# Altium schematic symbol library Contact.SchLib: 45 symbols
Pins are listed as number, name and electrical type; pins without a type are passive.

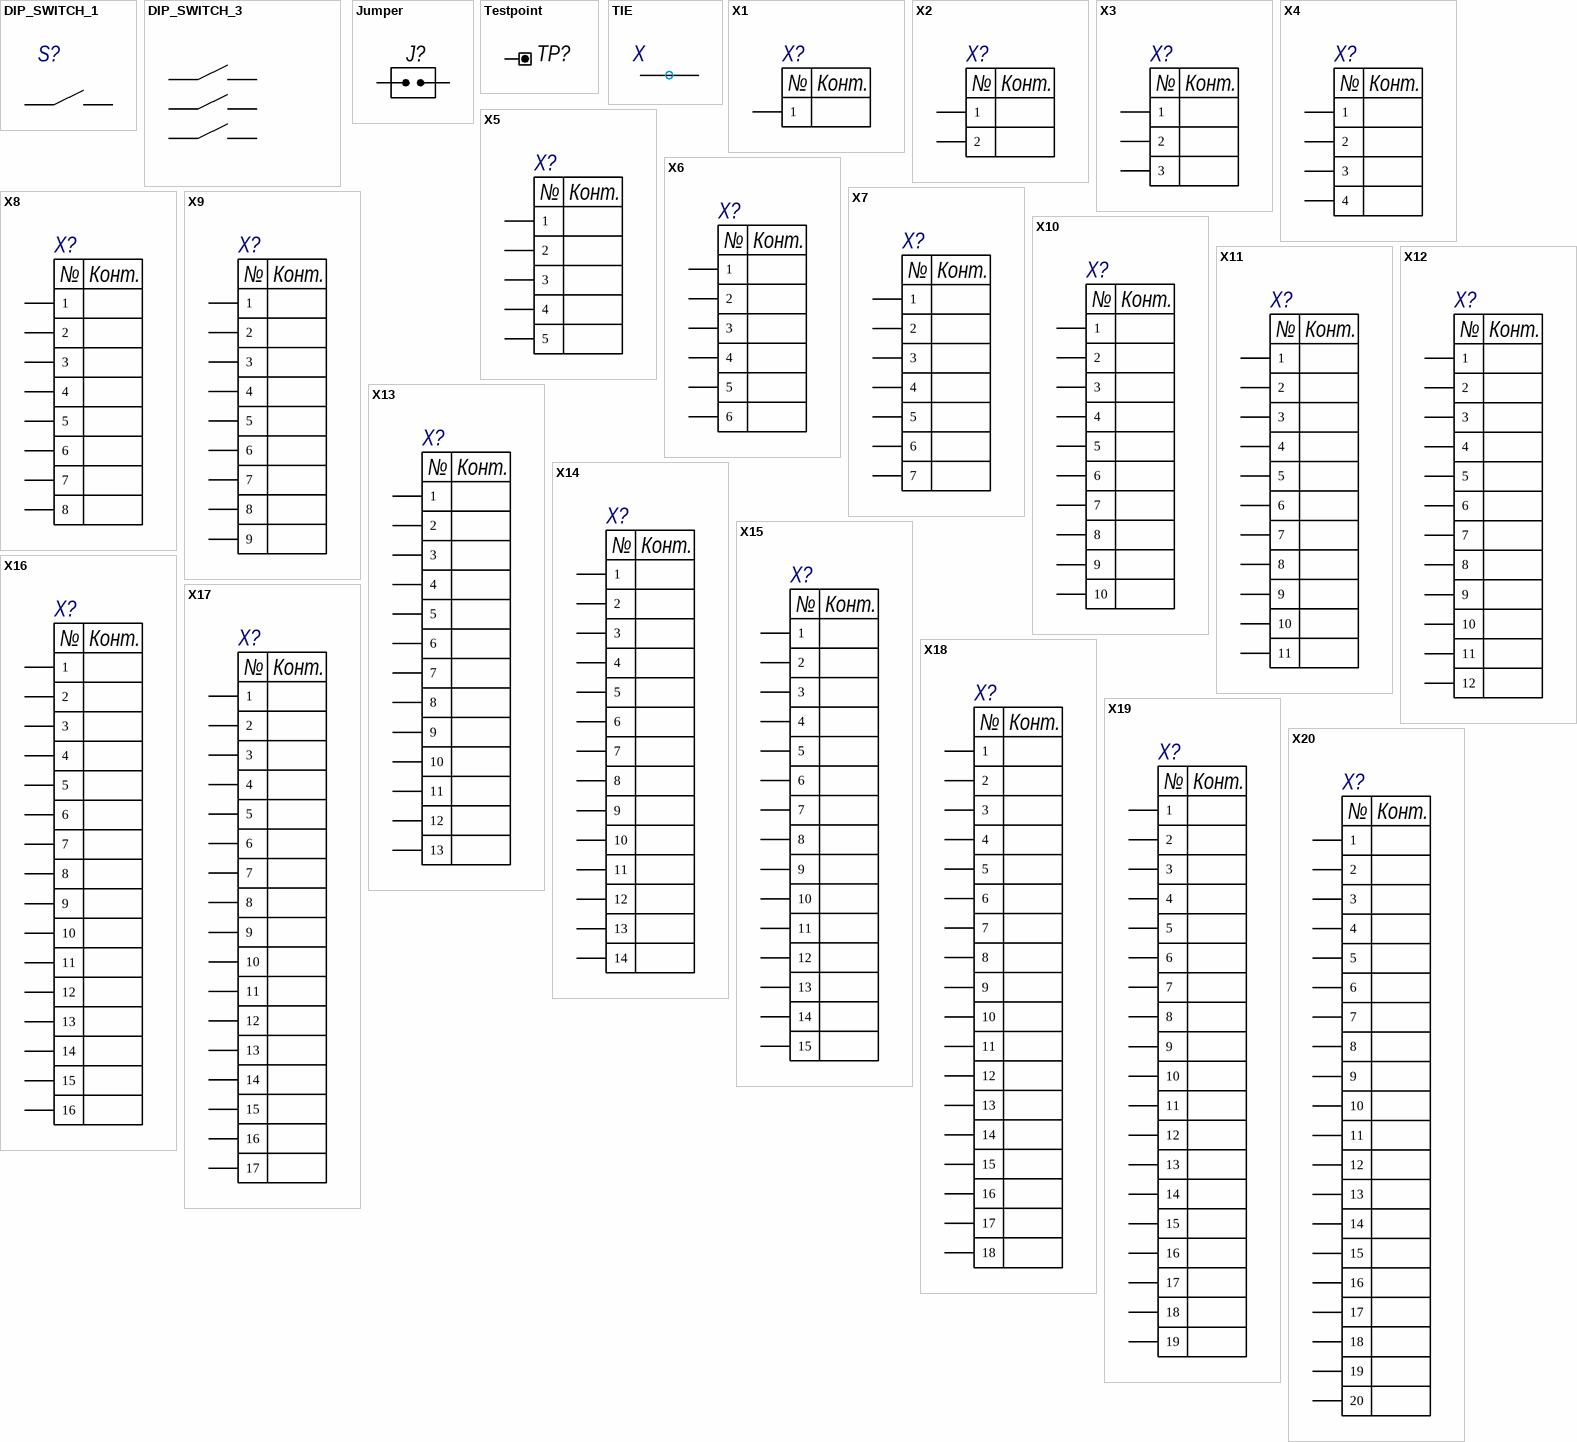
[diagram p0: symbols DIP_SWITCH_1 to X20]

## DIP_SWITCH_1
designator S?
Part: R 0805 ±1%; Cat: Резистор; Name: NULL; Power: 0,125 Вт; Tolerance: ±1%; Bill: Резистор NULL-0,125 Вт-NULL±1%; Com: R0805 0,125 Вт NULL ±1%; Package: R0805; Nominal: NULL
pins: 1, 2

## DIP_SWITCH_3
designator S?
Part: R 0805 ±1%; Cat: Резистор; Name: NULL; Power: 0,125 Вт; Tolerance: ±1%; Bill: Резистор NULL-0,125 Вт-NULL±1%; Com: R0805 0,125 Вт NULL ±1%; Package: R0805; Nominal: NULL
pins: 1, 2, 3, 4, 5, 6

## Jumper
designator J?
pins: 1 IN, 2 IN

## Testpoint
designator TP?
Manufacturer: Keystone; ValueManufacturerPartNumber: Test point, Keystone, 5001; PartNumber: 5001; TypeConnector: Test point; HelpURL: https://www.digikey.com/product-detail/en/keystone-electronics/5001/36-5001-ND/255327
pins: 1

## TIE
designator X  (value not drawn)
footprint TIE
pins: 1 "Информационный вход Х6", 2 "Информационный вход Х6"

## X1
designator X?
pins: 1
3 alternate drawings of the same symbol
text: №; Конт.

## X2
designator X?
pins: 1, 2
3 alternate drawings of the same symbol
text: №; Конт.

## X3
designator X?
pins: 1, 2, 3
3 alternate drawings of the same symbol
text: №; Конт.

## X4
designator X?
pins: 1, 2, 3, 4
3 alternate drawings of the same symbol
text: №; Конт.

## X5
designator X?
pins: 1, 2, 3, 4, 5
3 alternate drawings of the same symbol
text: №; Конт.

## X6
designator X?
pins: 1, 2, 3, 4, 5, 6
3 alternate drawings of the same symbol
text: №; Конт.

## X7
designator X?
pins: 1, 2, 3, 4, 5, 6, 7
3 alternate drawings of the same symbol
text: №; Конт.

## X8
designator X?
pins: 1, 2, 3, 4, 5, 6, 7, 8
3 alternate drawings of the same symbol
text: №; Конт.

## X9
designator X?
pins: 1, 2, 3, 4, 5, 6, 7, 8, 9
3 alternate drawings of the same symbol
text: №; Конт.

## X10
designator X?
pins: 1, 2, 3, 4, 5, 6, 7, 8, 9, 10
3 alternate drawings of the same symbol
text: №; Конт.

## X11
designator X?
pins: 1, 2, 3, 4, 5, 6, 7, 8, 9, 10, 11
3 alternate drawings of the same symbol
text: №; Конт.

## X12
designator X?
pins: 1, 2, 3, 4, 5, 6, 7, 8, 9, 10, 11, 12
3 alternate drawings of the same symbol
text: №; Конт.

## X13
designator X?
pins: 1, 2, 3, 4, 5, 6, 7, 8, 9, 10, 11, 12, 13
3 alternate drawings of the same symbol
text: №; Конт.

## X14
designator X?
pins: 1, 2, 3, 4, 5, 6, 7, 8, 9, 10, 11, 12, 13, 14
3 alternate drawings of the same symbol
text: №; Конт.

## X15
designator X?
pins: 1, 2, 3, 4, 5, 6, 7, 8, 9, 10, 11, 12, 13, 14, 15
3 alternate drawings of the same symbol
text: №; Конт.

## X16
designator X?
pins: 1, 2, 3, 4, 5, 6, 7, 8, 9, 10, 11, 12, 13, 14, 15, 16
3 alternate drawings of the same symbol
text: №; Конт.

## X17
designator X?
pins: 1, 2, 3, 4, 5, 6, 7, 8, 9, 10, 11, 12, 13, 14, 15, 16, 17
3 alternate drawings of the same symbol
text: №; Конт.

## X18
designator X?
pins: 1, 2, 3, 4, 5, 6, 7, 8, 9, 10, 11, 12, 13, 14, 15, 16, 17, 18
3 alternate drawings of the same symbol
text: №; Конт.

## X19
designator X?
pins: 1, 2, 3, 4, 5, 6, 7, 8, 9, 10, 11, 12, 13, 14, 15, 16, 17, 18, 19
3 alternate drawings of the same symbol
text: №; Конт.

## X20
designator X?
pins: 1, 2, 3, 4, 5, 6, 7, 8, 9, 10, 11, 12, 13, 14, 15, 16, 17, 18, 19, 20
3 alternate drawings of the same symbol
text: №; Конт.

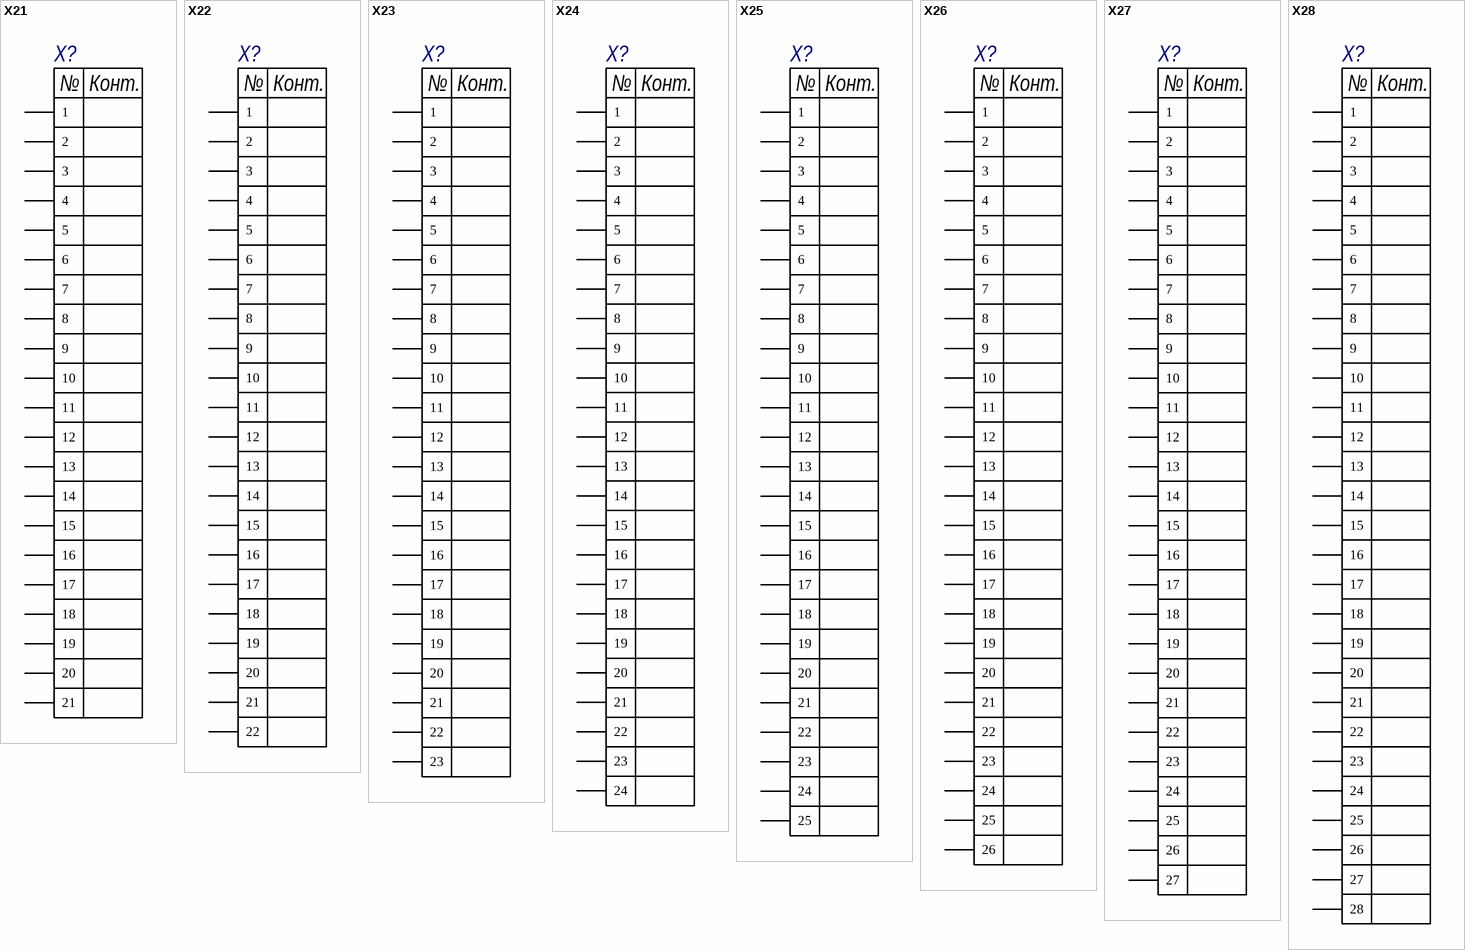
[diagram p1: symbols X21 to X28]

## X21
designator X?
pins: 1, 2, 3, 4, 5, 6, 7, 8, 9, 10, 11, 12, 13, 14, 15, 16, 17, 18, 19, 20, 21
3 alternate drawings of the same symbol
text: №; Конт.

## X22
designator X?
pins: 1, 2, 3, 4, 5, 6, 7, 8, 9, 10, 11, 12, 13, 14, 15, 16, 17, 18, 19, 20, 21, 22
3 alternate drawings of the same symbol
text: №; Конт.

## X23
designator X?
pins: 1, 2, 3, 4, 5, 6, 7, 8, 9, 10, 11, 12, 13, 14, 15, 16, 17, 18, 19, 20, 21, 22, 23
3 alternate drawings of the same symbol
text: №; Конт.

## X24
designator X?
pins: 1, 2, 3, 4, 5, 6, 7, 8, 9, 10, 11, 12, 13, 14, 15, 16, 17, 18, 19, 20, 21, 22, 23, 24
3 alternate drawings of the same symbol
text: №; Конт.

## X25
designator X?
pins: 1, 2, 3, 4, 5, 6, 7, 8, 9, 10, 11, 12, 13, 14, 15, 16, 17, 18, 19, 20, 21, 22, 23, 24, 25
3 alternate drawings of the same symbol
text: №; Конт.

## X26
designator X?
pins: 1, 2, 3, 4, 5, 6, 7, 8, 9, 10, 11, 12, 13, 14, 15, 16, 17, 18, 19, 20, 21, 22, 23, 24, 25, 26
3 alternate drawings of the same symbol
text: №; Конт.

## X27
designator X?
pins: 1, 2, 3, 4, 5, 6, 7, 8, 9, 10, 11, 12, 13, 14, 15, 16, 17, 18, 19, 20, 21, 22, 23, 24, 25, 26, 27
3 alternate drawings of the same symbol
text: №; Конт.

## X28
designator X?
pins: 1, 2, 3, 4, 5, 6, 7, 8, 9, 10, 11, 12, 13, 14, 15, 16, 17, 18, 19, 20, 21, 22, 23, 24, 25, 26, 27, 28
3 alternate drawings of the same symbol
text: №; Конт.

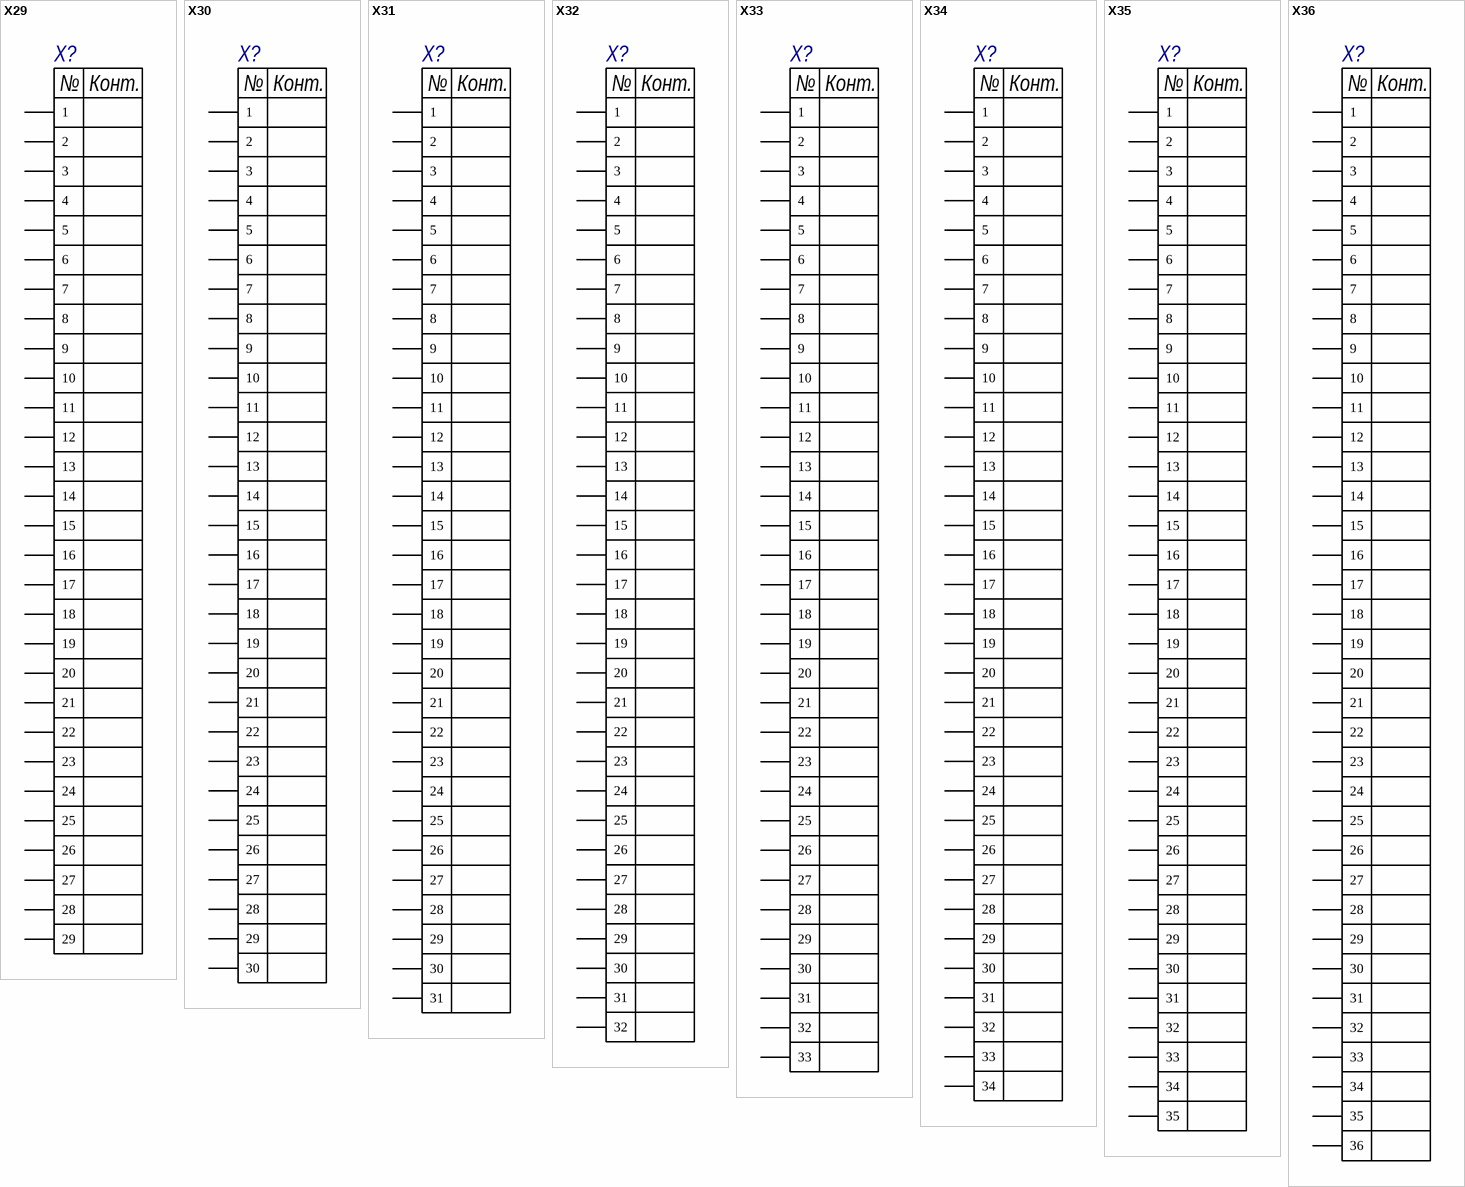
[diagram p2: symbols X29 to X36]

## X29
designator X?
pins: 1, 2, 3, 4, 5, 6, 7, 8, 9, 10, 11, 12, 13, 14, 15, 16, 17, 18, 19, 20, 21, 22, 23, 24, 25, 26, 27, 28, 29
3 alternate drawings of the same symbol
text: №; Конт.

## X30
designator X?
pins: 1, 2, 3, 4, 5, 6, 7, 8, 9, 10, 11, 12, 13, 14, 15, 16, 17, 18, 19, 20, 21, 22, 23, 24, 25, 26, 27, 28, 29, 30
3 alternate drawings of the same symbol
text: №; Конт.

## X31
designator X?
pins: 1, 2, 3, 4, 5, 6, 7, 8, 9, 10, 11, 12, 13, 14, 15, 16, 17, 18, 19, 20, 21, 22, 23, 24, 25, 26, 27, 28, 29, 30, 31
3 alternate drawings of the same symbol
text: №; Конт.

## X32
designator X?
pins: 1, 2, 3, 4, 5, 6, 7, 8, 9, 10, 11, 12, 13, 14, 15, 16, 17, 18, 19, 20, 21, 22, 23, 24, 25, 26, 27, 28, 29, 30, 31, 32
3 alternate drawings of the same symbol
text: №; Конт.

## X33
designator X?
pins: 1, 2, 3, 4, 5, 6, 7, 8, 9, 10, 11, 12, 13, 14, 15, 16, 17, 18, 19, 20, 21, 22, 23, 24, 25, 26, 27, 28, 29, 30, 31, 32, 33
3 alternate drawings of the same symbol
text: №; Конт.

## X34
designator X?
pins: 1, 2, 3, 4, 5, 6, 7, 8, 9, 10, 11, 12, 13, 14, 15, 16, 17, 18, 19, 20, 21, 22, 23, 24, 25, 26, 27, 28, 29, 30, 31, 32, 33, 34
3 alternate drawings of the same symbol
text: №; Конт.

## X35
designator X?
pins: 1, 2, 3, 4, 5, 6, 7, 8, 9, 10, 11, 12, 13, 14, 15, 16, 17, 18, 19, 20, 21, 22, 23, 24, 25, 26, 27, 28, 29, 30, 31, 32, 33, 34, 35
3 alternate drawings of the same symbol
text: №; Конт.

## X36
designator X?
pins: 1, 2, 3, 4, 5, 6, 7, 8, 9, 10, 11, 12, 13, 14, 15, 16, 17, 18, 19, 20, 21, 22, 23, 24, 25, 26, 27, 28, 29, 30, 31, 32, 33, 34, 35, 36
3 alternate drawings of the same symbol
text: №; Конт.

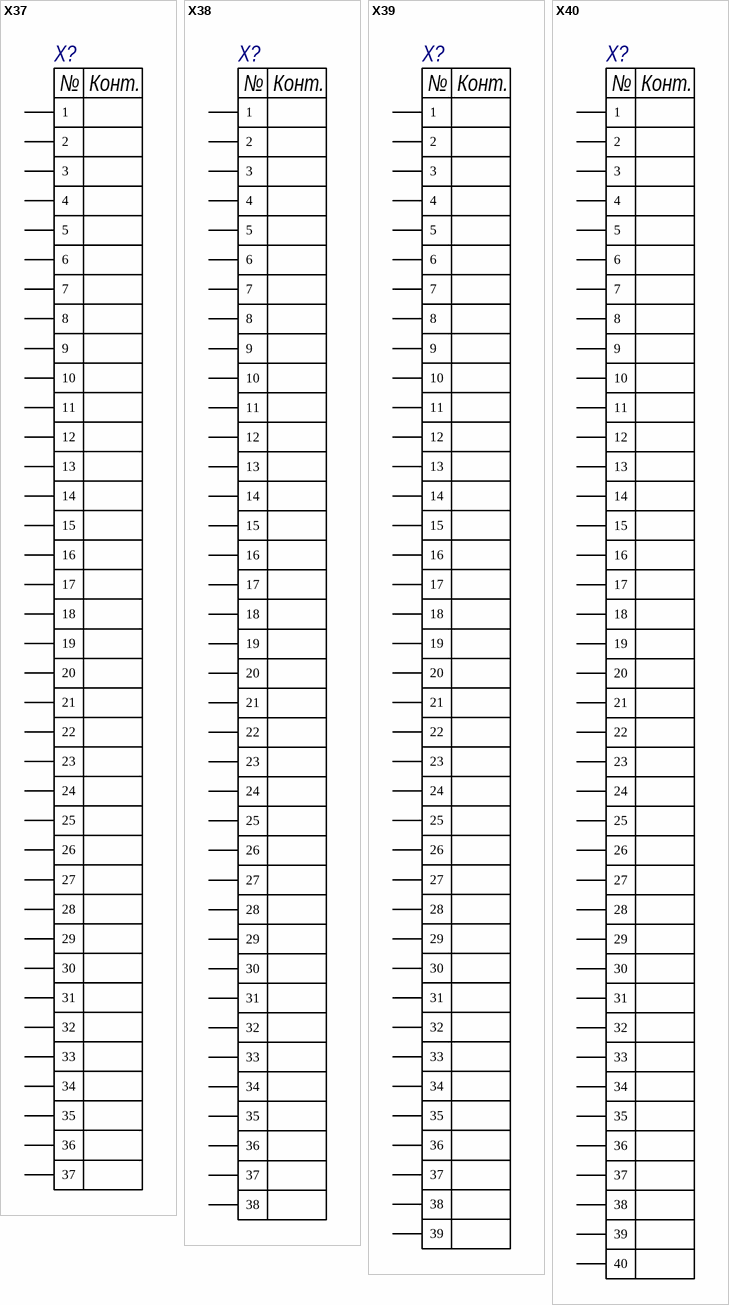
[diagram p3: symbols X37 to X40]

## X37
designator X?
pins: 1, 2, 3, 4, 5, 6, 7, 8, 9, 10, 11, 12, 13, 14, 15, 16, 17, 18, 19, 20, 21, 22, 23, 24, 25, 26, 27, 28, 29, 30, 31, 32, 33, 34, 35, 36, 37
3 alternate drawings of the same symbol
text: №; Конт.

## X38
designator X?
pins: 1, 2, 3, 4, 5, 6, 7, 8, 9, 10, 11, 12, 13, 14, 15, 16, 17, 18, 19, 20, 21, 22, 23, 24, 25, 26, 27, 28, 29, 30, 31, 32, 33, 34, 35, 36, 37, 38
3 alternate drawings of the same symbol
text: №; Конт.

## X39
designator X?
pins: 1, 2, 3, 4, 5, 6, 7, 8, 9, 10, 11, 12, 13, 14, 15, 16, 17, 18, 19, 20, 21, 22, 23, 24, 25, 26, 27, 28, 29, 30, 31, 32, 33, 34, 35, 36, 37, 38, 39
3 alternate drawings of the same symbol
text: №; Конт.

## X40
designator X?
pins: 1, 2, 3, 4, 5, 6, 7, 8, 9, 10, 11, 12, 13, 14, 15, 16, 17, 18, 19, 20, 21, 22, 23, 24, 25, 26, 27, 28, 29, 30, 31, 32, 33, 34, 35, 36, 37, 38, 39, 40
3 alternate drawings of the same symbol
text: №; Конт.